# Altium schematic symbol library PanelDriver.SCHLIB: 19 symbols
Pins are listed as number, name and electrical type; pins without a type are passive.

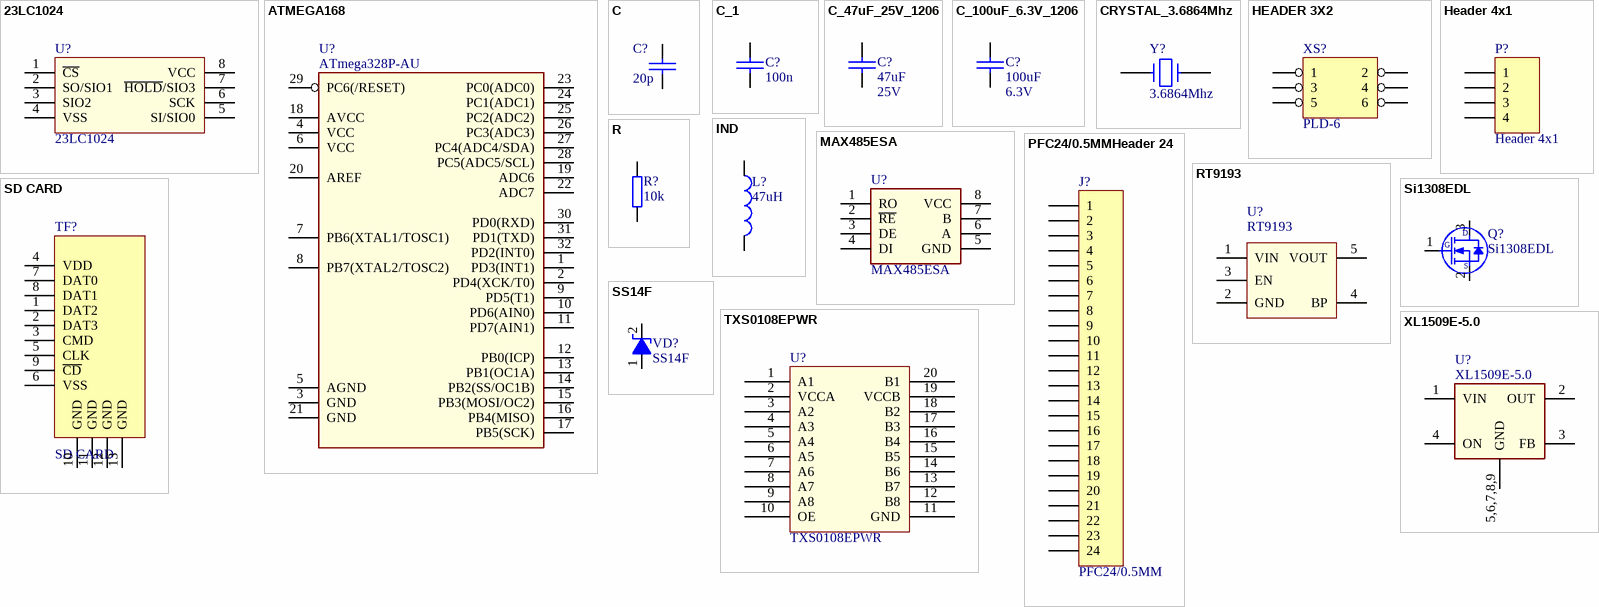
[diagram p0: symbols 23LC1024 to XL1509E-5.0]

## 23LC1024
designator U?
Manufacturer Part Number: MAX485ESA; Manufacturer: UMW; Chip-Dip Link: https://www.chipdip.ru/product/max485esa-umw; Price: 46
footprint SO8
pins: 1 ~{CS}, 2 SO/SIO1, 3 SIO2, 4 VSS, 5 SI/SIO0, 6 SCK, 7 ~{HOLD}/SIO3, 8 VCC

## ATMEGA168
designator U?, comment ATmega328P-AU
32KB 2KB FLASH 23 1.8V~5.5V AVR 20MHz TQFP-32(7x7)  Microcontroller Units (MCUs/MPUs/SOCs) ROHS; Manufacturer: MICROCHIP TECHNOLOGY; Manufacturer Part Number: ATmega328P-AU; Chip-Dip Link: https://www.platan.ru/cgi-bin/qwery.pl/id=944671602; Price: 290
footprint TQFP32
pins: 1 PD3(INT1), 2 PD4(XCK/T0), 3 GND, 4 VCC, 5 AGND, 6 VCC, 7 PB6(XTAL1/TOSC1), 8 PB7(XTAL2/TOSC2), 9 PD5(T1), 10 PD6(AIN0), 11 PD7(AIN1), 12 PB0(ICP), 13 PB1(OC1A), 14 PB2(SS/OC1B), 15 PB3(MOSI/OC2), 16 PB4(MISO), 17 PB5(SCK), 18 AVCC, 19 ADC6, 20 AREF, 21 GND, 22 ADC7, 23 PC0(ADC0), 24 PC1(ADC1), 25 PC2(ADC2), 26 PC3(ADC3), 27 PC4(ADC4/SDA), 28 PC5(ADC5/SCL), 29 PC6(/RESET), 30 PD0(RXD), 31 PD1(TXD), 32 PD2(INT0)

## C
designator C?, comment 20p
Capacitor; Manufacturer: Any; Manufacturer Part Number: Any
footprint C0805
pins: 1, 2

## C_1
designator C?, comment 100n
Capacitor; Manufacturer: Any; Manufacturer Part Number: Any
footprint C0805
pins: 1, 2

## C_47uF_25V_1206
designator C?, comment 47uF  Voltage: 25V
25V 47uF X5R ±20% 1206  Multilayer Ceramic Capacitors MLCC - SMD/SMT ROHS; Manufacturer: Murata Electronics; Manufacturer Part Number: GRM31CR61E476ME44L; Chip-Dip Link: https://www.chipdip.ru/product0/9000500396; Price: 38
footprint C1206
pins: 1, 2

## C_100uF_6.3V_1206
designator C?, comment 100uF  Voltage: 6.3V
6.3V 100uF X5R ±10% 1206  Multilayer Ceramic Capacitors MLCC - SMD/SMT ROHS; Manufacturer: Murata Electronics; Manufacturer Part Number: GRM31CR60J107KEA8L; Parameter 1: 85; Chip-Dip Link: https://www.chipdip.ru/product0/8015829745
footprint C1206
pins: 1, 2

## CRYSTAL_3.6864Mhz
designator Y?, comment 3.6864Mhz
Crystal 3.6864MHz 20pF SMT HC-49SM; Manufacturer: Any; Manufacturer Part Number: 3.6864 МГц HC-49SM; Chip-Dip Link: https://www.chipdip.ru/product/3.6864-mhz-hc-49sm; Price: 33
footprint HC-49S
pins: 1, 2

## HEADER 3X2
designator XS?, comment PLD-6
Header 3*2 pin, pitch 2.54 mm; Manufacturer: Any; Name: ISP; Manufacturer Part Number: Any
footprint PLD-6
pins: 1, 2, 3, 4, 5, 6

## Header 4x1
designator P?
Header, 4-Pin, pitch 2.54mm; Manufacturer: 3M; Manufacturer Part Number: 929400-01-04-RK; Connector Type: Header, Unshrouded, Breakable; Number of Positions: 4; Number of Positions Loaded: All; Pitch: 0.100" (2.54mm); Supplier 1: Digi-Key; RoHS: RoHS Compliant; Category: Connectors, Interconnects; Stock 1: 0; Pricing 1: 1=0.5, 10=0.444, 100=0.366, 500=0.2893, 1000=0.24835, 5000=0.22656, 10000=0.21785 (USD); Packaging: Bulk; Contact Type: Male Pin; Number of Rows: 1; Row Spacing: -; Contact Mating Length: 0.295" (7.49mm); Mounting Type: Through Hole; Termination: Solder; Fastening Type: -; Features: -; Contact Finish: Tin; Contact Finish Thickness: 100µin (2.54µm); Color: Black; ComponentLink1URL: http://multimedia.3m.com:80/mws/mediawebserver?66666UuZjcFSLXTt4XfymxF6EVuQEcuZgVs6EVs6E666666--; ComponentLink1Description: http://multimedia.3m.com:80/mws/mediawebserver?66666UuZjcFSLXTt4XfymxF6EVuQEcuZgVs6EVs6E666666--; Supplier Part Number 1: 929400E-01-04-ND
footprint 1x4-2.54mm
pins: 1, 2, 3, 4

## IND
designator L?, comment 47uH
800mA 47uH ±20% 400mΩ SMD,5x5.7mm  Inductors (SMD) ROHS; Manufacturer: Murata Electronics; Manufacturer Part Number: LQH55DN470M; Chip-Dip Link: https://www.chipdip.ru/product/lqh55dn470m; Price: 110
footprint L2220
pins: 1, 2

## MAX485ESA
designator U?
SOP-8  RS-485/RS-422 ICs ROHS; Manufacturer: UMW; Manufacturer Part Number: MAX485ESA; Chip-Dip Link: https://www.chipdip.ru/product/max485esa-umw; Price: 46
footprint SO8
pins: 1 RO, 2 ~{RE}, 3 DE, 4 DI, 5 GND, 6 A, 7 B, 8 VCC

## PFC24/0.5MMHeader 24
designator J?, comment PFC24/0.5MM
LatestRevisionDate: 17-Jul-2002; LatestRevisionNote: Re-released for DXP Platform.; Publisher: Altium Limited
footprint HDR1X24 (Connector; Header; 24 Position)
signal-integrity model Connector
footprint PFC24/0.5MM (Footprint not found)
pins: 1, 2, 3, 4, 5, 6, 7, 8, 9, 10, 11, 12, 13, 14, 15, 16, 17, 18, 19, 20, 21, 22, 23, 24

## R
designator R?, comment 10k
Resistor; Manufacturer: Any; Manufacturer Part Number: Any
footprint R0805
pins: 1, 2
1 alternate drawing of the same symbol

## RT9193
designator U?
Manufacturer Part Number: XL1509E-5.0; Manufacturer: UMW; Chip-Dip Link: https://www.chipdip.ru/product/xl1509e-5.0; Price: 34
footprint SOT23-5 (Footprint not found)
pins: 1 VIN, 2 GND, 3 EN, 4 BP, 5 VOUT

## SD CARD
designator TF?
SDCARD; PartNumber: 693071010811; Manufacturer: WURTH ELEKTRONIK; Supplier 1: Digi-Key; Supplier Part Number 1: 732-3819-2-ND; Price: 3,3
footprint L-KLS1-TF-003-uSD (Secure Digital - microSD™ Surface Mount, Right Angle Gold)
pins: 1 DAT2, 2 DAT3, 3 CMD, 4 VDD, 5 CLK, 6 VSS, 7 DAT0, 8 DAT1, 9 ~{CD}, 10 GND, 11 GND, 12 GND, 13 GND

## Si1308EDL
designator Q?
Manufacturer: Vishay; PartNumber: Si1308EDL
footprint SOT323-3 (SMD, 2.2x2.2mm)
pins: 1 G, 2 S, 3 D

## SS14F
designator VD?
40V 550mV@1A 1A SMAF  Schottky Barrier Diodes (SBD) ROHS; Manufacture: UMF; Manufacturer: UMW; Chip-Dip Link: https://www.chipdip.ru/product/ss14f; Price: 4; Manufacturer Part Number: SS14F
simulation model ZENER (Diode)
signal-integrity model D Zener
footprint DO-201
footprint DO-15
footprint SMAF (Footprint not found)
pins: 1 A, 2 K

## TXS0108EPWR
designator U?
Manufacturer: MICROCHIP TECHNOLOGY; Manufacturer Part Number: ATmega328P-AU; Chip-Dip Link: https://www.platan.ru/cgi-bin/qwery.pl/id=944671602; Price: 290
footprint TSSOP-20 (Footprint not found)
pins: 1 A1, 2 VCCA, 3 A2, 4 A3, 5 A4, 6 A5, 7 A6, 8 A7, 9 A8, 10 OE, 11 GND, 12 B8, 13 B7, 14 B6, 15 B5, 16 B4, 17 B3, 18 B2, 19 VCCB, 20 B1

## XL1509E-5.0
designator U?
SOP-8-EP  DC-DC Converters ROHS; Manufacturer: UMW; Manufacturer Part Number: XL1509E-5.0; Chip-Dip Link: https://www.chipdip.ru/product/xl1509e-5.0; Price: 34
footprint ESOP8 (Footprint not found)
pins: 1 VIN, 2 OUT, 3 FB, 4 ON, 5,6,7,8,9 GND